# EAGLE library part CREE_RGB_CHIPLED (library led_cree)
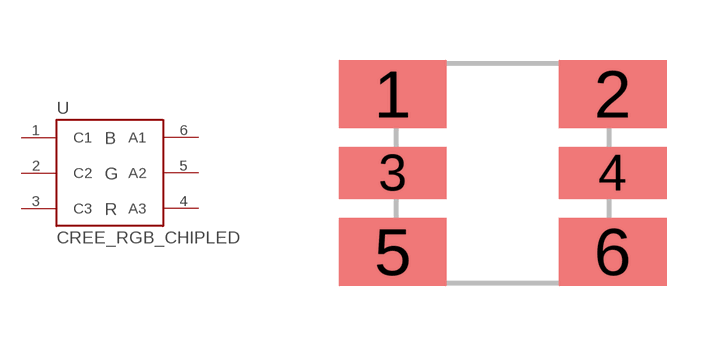
[diagram p1: symbol with the pads of PLCC6_5X5; footprint PLCC6_5X5]

Designator prefix -

## CREE_RGB_CHIPLEDCLV6A-FKB  [PLCC6_5X5]
1  C1
2  C2
3  C3
4  A3
5  A2
6  A1

## Footprint PLCC6_5X5 (pad centres in mm)
smd 2.7 x 1.7: 1 -2.75,1.975; 2 2.75,1.975; 5 -2.75,-1.975; 6 2.75,-1.975
smd 2.7 x 1.3: 3 -2.75,0; 4 2.75,0